# Altium footprint library RES.PCBLIB: 55 footprints (part 4 of 4)
Each footprint in its own frame and in the unit in brackets; x right, y up, seen from the top. Pads: shape width x height; smd on the part's side, far side on the other; paste and mask are expansions set on the pad; w line width, h text height; cw(c..) or ccw(c..) is an arc to the next point about the centre after c.
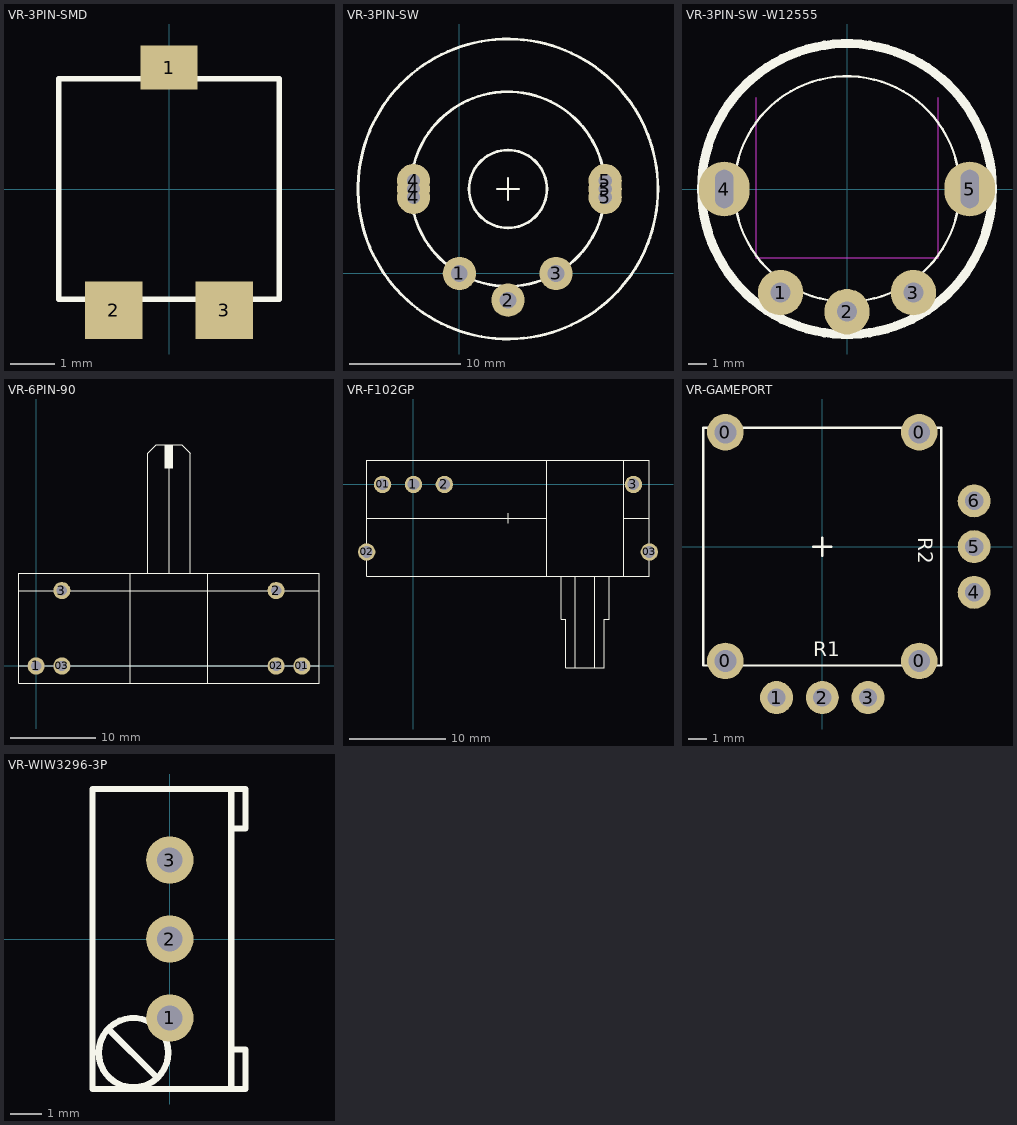
[diagram p3: the footprints below, top view; thin cyan lines are the x and y axes]

## VR-3PIN-SMD [mm]
pads (3):
  rect 1.3x1 smd: 1(0,2.75)
  rect 1.3x1.3 smd: 2(-1.25,-2.75) 3(1.25,-2.75)
TopOverlay:
  lines w0.127: -2.5,-2.5 2.5,-2.5 2.5,2.5 -2.5,2.5 -2.5,-2.5

## VR-3PIN-SW [mm]
pads (9):
  round 3 hole 1.5: 1(0,0) 2(4.373,-2.4) 3(8.697,0)
  round 3 hole 1.2: 4(-4.127,6.85) 4(-4.127,7.6) 4(-4.127,8.35) 5(13.123,6.85) 5(13.123,7.6) 5(13.123,8.35)
TopOverlay:
  circle w0.254: c4.373,7.6 r8.754
  circle w0.254: c4.373,7.6 r3.5
  circle w0.254: c4.373,7.6 r13.5
  lines w0.203: 3.373,7.6 4.373,7.6 ; 4.373,6.6 4.373,7.6 ; 4.373,8.6 4.373,7.6 ; 5.373,7.6 4.373,7.6

## VR-3PIN-SW -W12555 [mm] "VR-3PIN-SW -W12555"
pads (5):
  round 2.5 hole 1.1: 1(-3.65,-5.7) 2(0,-6.75) 3(3.65,-5.7)
  oval 2.8x3 hole 1 slot 2.1 at 90 deg: 4(-6.75,0) 5(6.75,0)
TopOverlay:
  circle w0.127: c0,0 r6.2
  circle w0.5: c0,0 r8
KeepOutLayer:
  lines w0.127: -5,5 -5,-3.8 5,-3.8 5,5

## VR-6PIN-90 [mm]
pads (6):
  round 2 hole 1.2: 1(0,0) 01(31,0) 02(28,0) 2(28,8.8) 03(3,0) 3(3,8.8)
TopOverlay:
  rectangle: 14.97,23.045 15.945,25.8
  lines w0.127: -2,0 33,0 ; -2,8.8 33,8.8 ; 11,-2 11,10.8 ; 13,10.8 13,24.8 14,25.8 17,25.8 18,24.8 18,10.8 ; 15.5,10.8 15.5,25.8 ; 20,-2 20,10.8 ; -2,-2 -2,10.8 33,10.8 33,-2 -2,-2

## VR-F102GP [mm]
pads (6):
  round 1.8 hole 1.2: 01(-3.2,0) 1(0,0) 02(-4.85,-7) 2(3.2,0) 3(22.8,0) 03(24.45,-7)
TopOverlay:
  lines w0.127: -4.85,-3.496 13.8,-3.496 ; 9.8,-3.996 9.8,-2.996 ; 13.8,-9.496 13.8,2.504 ; 15.296,-9.496 15.296,-13.996 15.796,-13.996 15.796,-18.996 19.796,-18.996 19.796,-13.996 20.296,-13.996 20.296,-9.496 ; 16.796,-18.996 16.796,-9.496 ; 18.796,-18.996 18.796,-9.496 ; 21.8,-9.471 21.8,2.504 ; 21.8,-3.496 24.45,-3.496 ; -4.85,-9.496 -4.85,2.504 24.45,2.504 24.45,-9.496 -4.85,-9.496

## VR-GAMEPORT [mm]
pads (10):
  round 2 hole 1.2: 0(-5.3,-6.25) 0(-5.3,6.25) 0(5.3,-6.25) 0(5.3,6.25)
  round 1.8 hole 1: 1(-2.5,-8.25) 2(0,-8.25) 3(2.5,-8.25) 4(8.3,-2.5) 5(8.3,0) 6(8.3,2.5)
TopOverlay:
  lines w0.127: -0.5,0 0.5,0 ; 0,-0.5 0,0.5 ; -6.5,-6.5 6.5,-6.5 6.5,6.5 -6.5,6.5 -6.5,-6.5
  text "R1" at -0.5,-6 h0.8
  text "R2" at 5.25,0.5 h0.8

## VR-WIW3296-3P [mm]
pads (3):
  round 1.5 hole 0.8: 1(0,-2.5) 2(0,0) 3(0,2.5)
TopOverlay:
  circle w0.2: c-1.15,-3.6 r1.1
  lines w0.2: -1.95,-2.85 -0.45,-4.35 ; 1.95,-4.75 1.95,-3.5 ; 1.95,4.75 1.95,3.5 ; 1.95,-3.5 1.95,3.5 ; 1.95,-3.5 2.4,-3.5 2.4,-4.75 -2.45,-4.75 -2.45,4.75 2.4,4.75 2.4,3.5 1.95,3.5